# EAGLE library part TERMINAL-BLOCK-06 (library Header and Connector)
Terminal Block HB9500 6 Ways
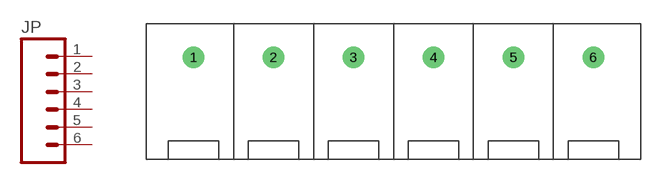
[diagram p30: symbol with the pads of TERMINAL-HB9500-06; footprint TERMINAL-HB9500-06]

Designator prefix JP

## TERMINAL-BLOCK-06_(HB9500) (CYTRON-PC: CN-TB-9502-06; DESC: Screw Board Terminal Block - 6 Ways; VALUE: 6 Ways)  [TERMINAL-HB9500-06]
1  1  pas
2  2  pas
3  3  pas
4  4  pas
5  5  pas
6  6  pas

## Footprint TERMINAL-HB9500-06 (pad centres in mm)
Screw Terminal Block HB9500 - 6 Ways Created by: Idris
drill 1.7: 1 -23.75,0; 2 -14.25,0; 3 -4.75,0; 4 4.75,0; 5 14.25,0; 6 23.75,0